# Altium footprint library Radios_Comunitarias.PcbLib: 39 footprints (part 1 of 3)
Each footprint in its own frame and in the unit in brackets; x right, y up, seen from the top. Pads: shape width x height; smd on the part's side, far side on the other; paste and mask are expansions set on the pad; w line width, h text height; cw(c..) or ccw(c..) is an arc to the next point about the centre after c.
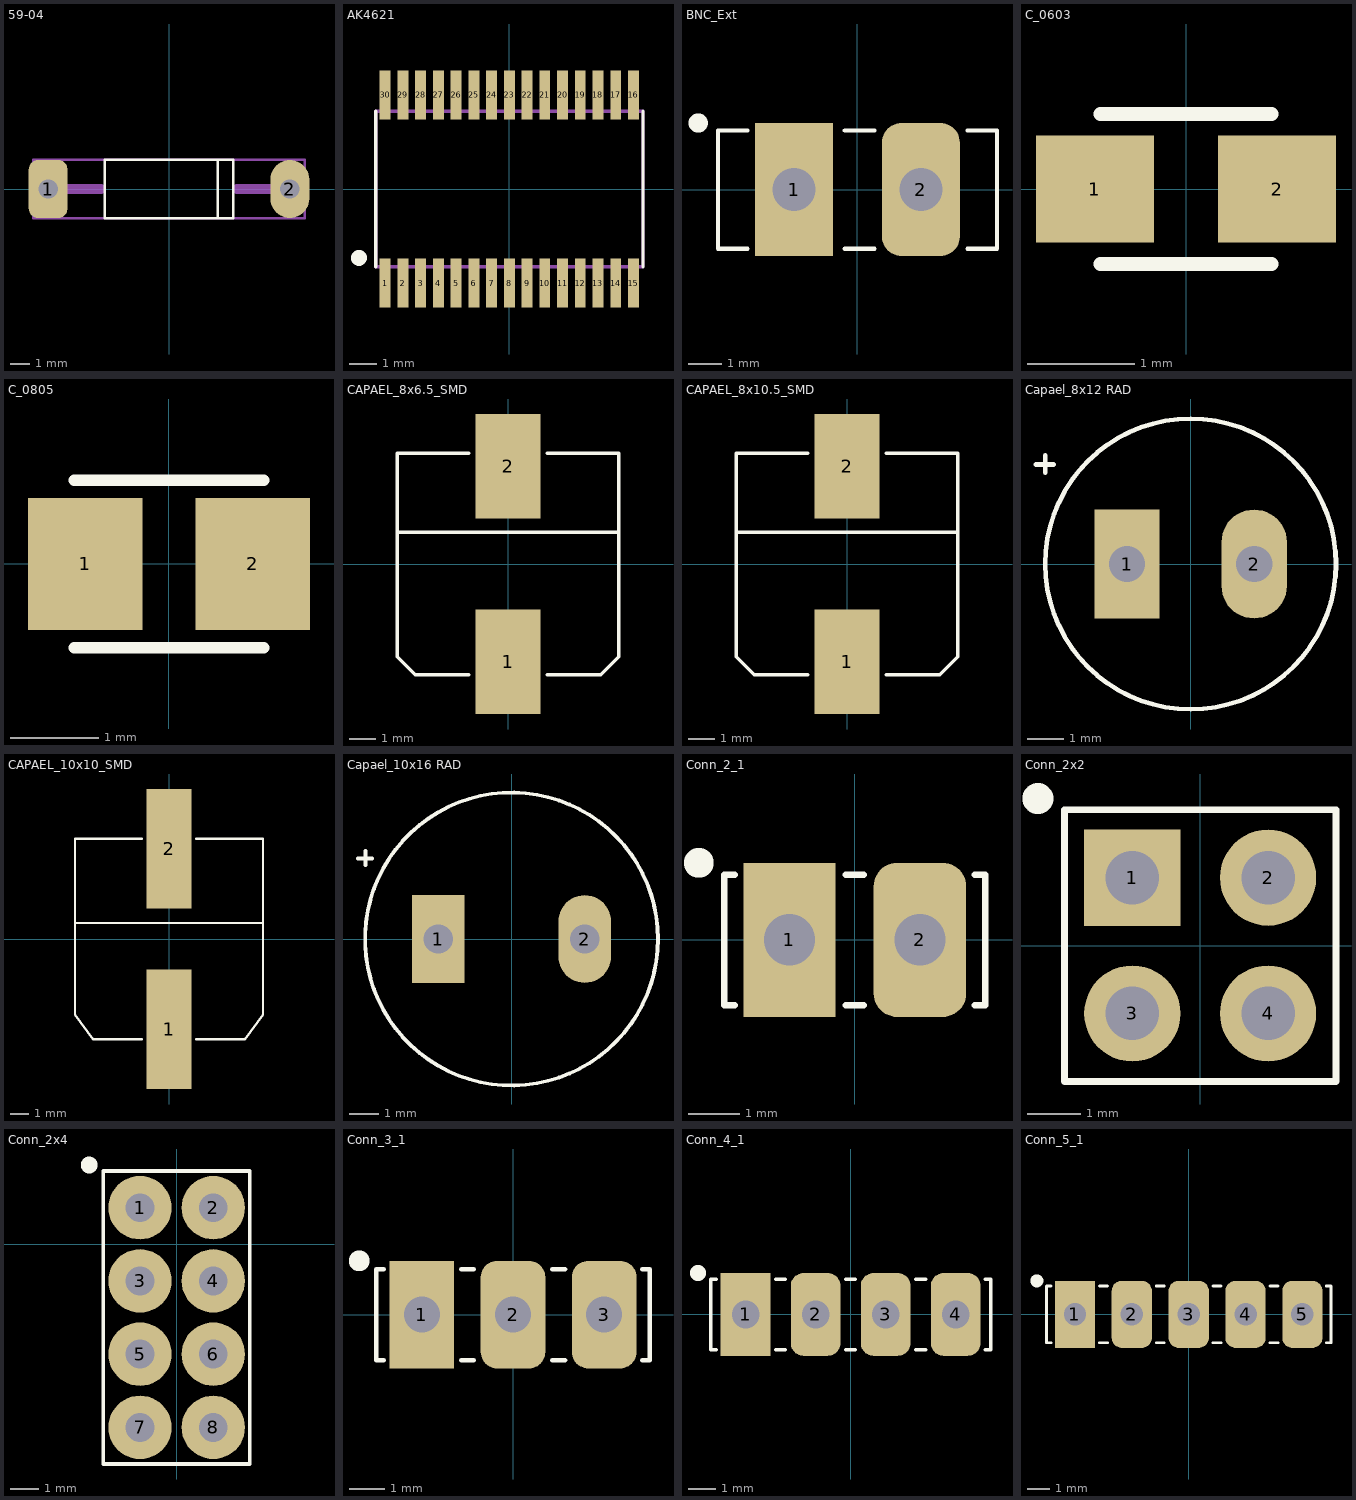
[diagram p0: the footprints below, top view; thin cyan lines are the x and y axes]

## 59-04 [mm] "Diodos TH 59-04"
pads (2):
  rrect50% 2x3 hole 1 unplated: 1(-6.223,0)
  oval 2x3 hole 1 unplated: 2(6.223,0)
Top Overlay:
  lines w0.127: 2.5,-1.5 2.5,1.5 ; -3.3,-1.5 3.3,-1.5 3.3,1.5 -3.3,1.5 -3.3,-1.5
Mechanical 15:
  lines w0.127: -7,-1.5 7,-1.5 7,1.5 -7,1.5 -7,-1.5
  lines w0.508: -6.223,0 -3.5,0 ; 3.5,0 6.223,0

## AK4621 [mm] "24bits 192kHz Stereo Audio CODEC SMD (VSOP-30)"
height 1.5
pads (30):
  rect 0.4x1.8 smd: 1(-4.55,-3.45) 2(-3.9,-3.45) 3(-3.25,-3.45) 4(-2.6,-3.45) 5(-1.95,-3.45) 6(-1.3,-3.45) 7(-0.65,-3.45) 8(0,-3.45) 9(0.65,-3.45) 10(1.3,-3.45) 11(1.95,-3.45) 12(2.6,-3.45) 13(3.25,-3.45) 14(3.9,-3.45) 15(4.55,-3.45) 16(4.55,3.45) 17(3.9,3.45) 18(3.25,3.45) 19(2.6,3.45) 20(1.95,3.45) 21(1.3,3.45) 22(0.65,3.45) 23(0,3.45) 24(-0.65,3.45) 25(-1.3,3.45) 26(-1.95,3.45) 27(-2.6,3.45) 28(-3.25,3.45) 29(-3.9,3.45) 30(-4.55,3.45)
Top Overlay:
  circle w0.508: c-5.51,-2.525 r0.035
  lines w0.127: -4.9,-2.85 -4.9,2.85 ; 4.9,-2.85 4.9,2.85
Mechanical 15:
  lines w0.127: -4.9,-2.85 4.9,-2.85 4.9,2.85 -4.9,2.85 -4.9,-2.85

## BNC_Ext [mm] "Cables para el BNC que va en el chasis"
pads (2):
  rect 2.34x4 hole 1.3: 1(-1.905,0)
  rrect50% 2.34x4 hole 1.3: 2(1.905,0)
Top Overlay:
  circle w0.508: c-4.785,2 r0.035
  lines w0.127: -3.302,-1.778 -4.191,-1.778 -4.191,1.778 -3.302,1.778 ; -0.381,-1.778 0.508,-1.778 ; -0.381,1.778 0.508,1.778 ; 3.302,-1.778 4.191,-1.778 4.191,1.778 3.302,1.778

## C_0603 [mm] "Capacitor de placas paralelas SMD 0603"
height 0.85
pads (2):
  rect 1.1x1 smd: 1(-0.85,0) 2(0.85,0)
Top Overlay:
  lines w0.127: -0.8,-0.7 0.8,-0.7 ; -0.8,0.7 0.8,0.7

## C_0805 [mm] "Capacitor SMD 0805"
height 1.1
pads (2):
  rect 1.3x1.5 smd: 1(-0.95,0) 2(0.95,0)
Top Overlay:
  lines w0.127: -1.075,-0.95 1.075,-0.95 ; -1.075,0.95 1.075,0.95

## CAPAEL_8x6.5_SMD [mm]
pads (2):
  rect 2.5x4 smd: 1(0,-3.75) 2(0,3.75)
Top Overlay:
  lines w0.127: -4.25,1.212 4.25,1.212 ; -1.5,-4.25 -3.55,-4.25 -4.25,-3.55 -4.25,4.25 -1.5,4.25 ; 1.5,-4.25 3.55,-4.25 4.25,-3.55 4.25,4.25 1.5,4.25

## CAPAEL_8x10.5_SMD [mm]
pads (2):
  rect 2.5x4 smd: 1(0,-3.75) 2(0,3.75)
Top Overlay:
  lines w0.127: -4.25,1.212 4.25,1.212 ; -1.5,-4.25 -3.55,-4.25 -4.25,-3.55 -4.25,4.25 -1.5,4.25 ; 1.5,-4.25 3.55,-4.25 4.25,-3.55 4.25,4.25 1.5,4.25

## Capael_8x12 RAD [mm] "Capacitor radial 8x12 Electrolitico"
height 12
pads (2):
  rect 1.8x3 hole 1 unplated: 1(-1.75,0)
  oval 1.8x3 hole 1 unplated: 2(1.75,0)
Top Overlay:
  circle w0.127: c0,0 r4
  lines w0.127: -4.254,2.737 -3.771,2.737 ; -4,2.509 -4,2.991

## CAPAEL_10x10_SMD [mm]
pads (2):
  rect 2.5x6.6 smd: 1(0,-5) 2(0,5)
Top Overlay:
  lines w0.127: -5.2,0.889 5.2,0.889 ; -1.5,-5.55 -4.2,-5.55 -5.2,-4.2 -5.2,5.55 -1.5,5.55 ; 1.5,-5.55 4.2,-5.55 5.2,-4.2 5.2,5.55 1.5,5.55

## Capael_10x16 RAD [mm] "Capacitor radial 10x16 Electrolitico"
height 16
pads (2):
  rect 1.8x3 hole 1 unplated: 1(-2.5,0)
  oval 1.8x3 hole 1 unplated: 2(2.5,0)
Top Overlay:
  circle w0.127: c0,0 r5
  lines w0.127: -5.241,2.75 -4.759,2.75 ; -4.987,2.521 -4.987,3.004

## Conn_2_1 [mm] "Conector de 2x1"
height 8
pads (2):
  rect 1.8x3 hole 1: 1(-1.27,0)
  rrect50% 1.8x3 hole 1: 2(1.27,0)
Top Overlay:
  circle w0.508: c-3.035,1.5 r0.035
  lines w0.127: -2.337,-1.27 -2.54,-1.27 -2.54,1.27 -2.337,1.27 ; -0.178,-1.27 0.178,-1.27 ; -0.178,1.27 0.178,1.27 ; 2.337,-1.27 2.54,-1.27 2.54,1.27 2.337,1.27

## Conn_2x2 [mm] "Conector de 2x2"
height 8
pads (4):
  rect 1.8x1.8 hole 1: 1(-1.27,1.27)
  round 1.8 hole 1: 2(1.27,1.27) 3(-1.27,-1.27) 4(1.27,-1.27)
Top Overlay:
  circle w0.508: c-3.035,2.75 r0.035
  lines w0.127: -2.54,-2.54 2.54,-2.54 2.54,2.54 -2.54,2.54 -2.54,-2.54

## Conn_2x4 [mm] "Conector de 2x4"
height 8
pads (8):
  round 2.2 hole 1: 1(-1.27,1.27) 2(1.27,1.27) 3(-1.27,-1.27) 4(1.27,-1.27) 5(-1.27,-3.81) 6(1.27,-3.81) 7(-1.27,-6.35) 8(1.27,-6.35)
Top Overlay:
  circle w0.508: c-3.035,2.75 r0.035
  lines w0.127: 2.54,-2.54 2.54,2.54 ; 2.54,2.54 2.54,-7.62 -2.54,-7.62 -2.54,2.54 2.54,2.54

## Conn_3_1 [mm] "Conector de 3x1"
height 8
pads (3):
  rect 1.8x3 hole 1: 1(-2.54,0)
  rrect50% 1.8x3 hole 1: 2(0,0) 3(2.54,0)
Top Overlay:
  circle w0.508: c-4.285,1.5 r0.035
  lines w0.127: -3.607,-1.27 -3.81,-1.27 -3.81,1.27 -3.607,1.27 ; -1.448,-1.27 -1.092,-1.27 ; -1.448,1.27 -1.092,1.27 ; 1.092,-1.27 1.448,-1.27 ; 1.092,1.27 1.448,1.27 ; 3.607,-1.27 3.81,-1.27 3.81,1.27 3.607,1.27

## Conn_4_1 [mm] "Conector de 4x1"
height 8
pads (4):
  rect 1.8x3 hole 1: 1(-3.81,0)
  rrect50% 1.8x3 hole 1: 2(-1.27,0) 3(1.27,0) 4(3.81,0)
Top Overlay:
  circle w0.508: c-5.535,1.5 r0.035
  lines w0.127: -4.877,-1.27 -5.08,-1.27 -5.08,1.27 -4.877,1.27 ; -2.718,-1.27 -2.362,-1.27 ; -2.718,1.27 -2.362,1.27 ; -0.178,-1.27 0.178,-1.27 ; -0.178,1.27 0.178,1.27 ; 2.362,-1.27 2.718,-1.27 ; 2.362,1.27 2.718,1.27 ; 4.877,-1.27 5.08,-1.27 5.08,1.27 4.877,1.27

## Conn_5_1 [mm] "Conector de 5x1"
height 8
pads (5):
  rect 1.8x3 hole 1: 1(-5.08,0)
  rrect50% 1.8x3 hole 1: 2(-2.54,0) 3(0,0) 4(2.54,0) 5(5.08,0)
Top Overlay:
  circle w0.508: c-6.785,1.5 r0.035
  lines w0.127: -6.147,-1.27 -6.35,-1.27 -6.35,1.27 -6.147,1.27 ; -3.988,-1.27 -3.632,-1.27 ; -3.988,1.27 -3.632,1.27 ; -1.448,-1.27 -1.092,-1.27 ; -1.448,1.27 -1.092,1.27 ; 1.092,-1.27 1.448,-1.27 ; 1.092,1.27 1.448,1.27 ; 3.632,-1.27 3.988,-1.27 ; 3.632,1.27 3.988,1.27 ; 6.147,-1.27 6.35,-1.27 6.35,1.27 6.147,1.27